# EAGLE library part 613008216921 (library Wurth_Elektronik_Electromechanic_Board_to_Board_Connectors_rev16a)
WR-PHD 2.54mm Dual S. Header Bottom Entry Large, 8 Pins=>Code : Con_BTB_SHD_2.54_2_613008216921 <http://katalog.we-online.de/media/images/eican/Con_BTB_SHD_2.54_2_6130xx216921_pf2.jpg> Details see: http://katalog.we-online.de/en/em/613_0xx_216_921 Created 2014-05-30, Karrer Zheng 2014 (C) Würth Elektronik
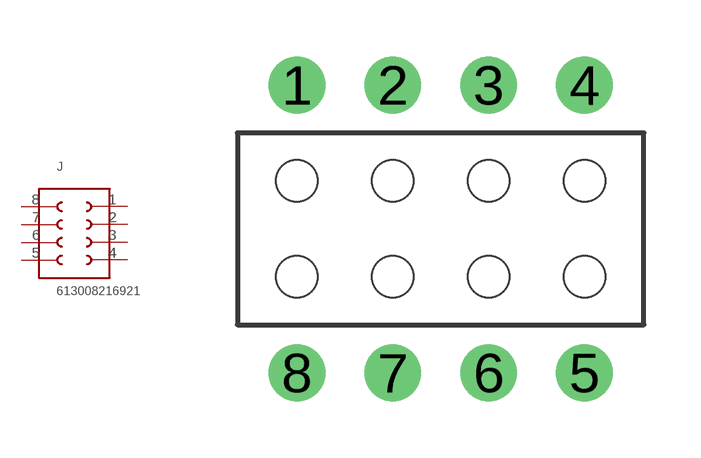
[diagram p169: symbol with the pads of 613008216921; footprint 613008216921]

Designator prefix J

## 613008216921  [613008216921]
1  1  pas
2  2  pas
3  3  pas
4  4  pas
5  5  pas
6  6  pas
7  7  pas
8  8  pas

## Footprint 613008216921 (pad centres in mm)
WR-PHD 2.54mm Dual S. Header Bottom Entry Large, 8 Pins
drill 1: 1 -3.81,3.81; 2 -1.27,3.81; 3 1.27,3.81; 4 3.81,3.81; 5 3.81,-3.81; 6 1.27,-3.81; 7 -1.27,-3.81; 8 -3.81,-3.81
hole 1.1 at -3.81,1.27
hole 1.1 at -1.27,1.27
hole 1.1 at 1.27,1.27
hole 1.1 at 3.81,1.27
hole 1.1 at 3.81,-1.27
hole 1.1 at 1.27,-1.27
hole 1.1 at -1.27,-1.27
hole 1.1 at -3.81,-1.27